# EAGLE library part SWITCHED-RC-FILTER (library resistors)
Resistor, capacitor, and switch in space of 1/2 W resistor Using SMT for either R or C, and thru-hole for C or R, respectively. Switch is extra pair of thru-hole pads off end of other thru-holes.
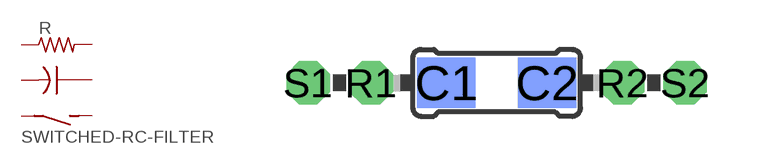
[diagram p0: symbol with the pads of R7.5/1206/SWITCH; footprint R7.5/1206/SWITCH]

Designator prefix R

## SWITCHED-RC-FILTER-10  [R7.5/1206/SWITCH]
C1  C1  pas
C2  C2  pas
R1  R1  pas
R2  R2  pas
S1  S1  pas
S2  S2  pas

## Footprint R7.5/1206/SWITCH (pad centres in mm)
Switch-shortable version of R7.5/1206
smd 1.778 x 1.524 bottom: C1 -1.527,0; C2 1.527,0
drill 0.813 octagon: R1 -3.81,0; R2 3.81,0; S1 -5.715,0; S2 5.715,0